# Altium footprint library via_test_point_flags.PcbLib: 1 footprints
Each footprint in its own frame and in the unit in brackets; x right, y up, seen from the top. Pads: shape width x height; smd on the part's side, far side on the other; paste and mask are expansions set on the pad; w line width, h text height; cw(c..) or ccw(c..) is an arc to the next point about the centre after c.
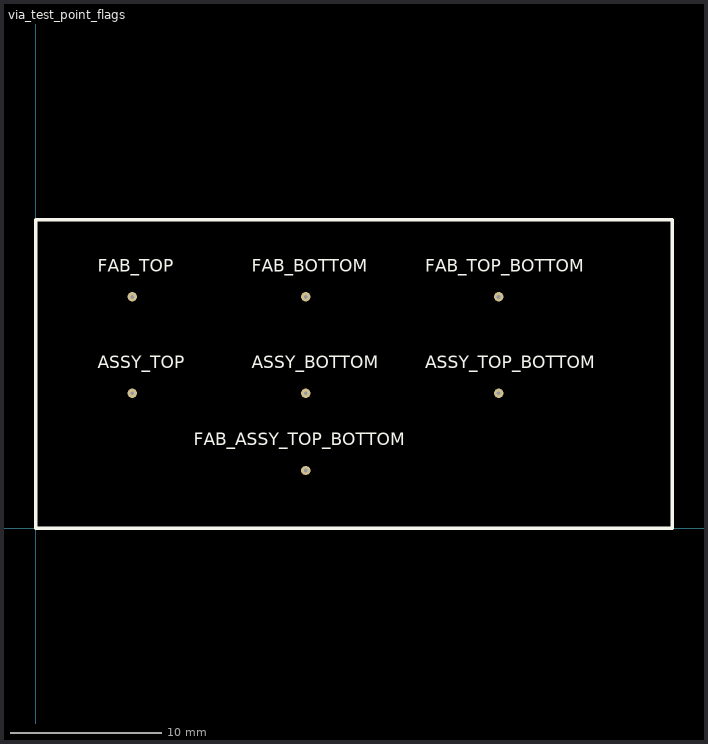
[diagram p0: the footprint, top view; thin cyan lines are the x and y axes]

## via_test_point_flags [mm] "This is a test of via test point flags"
via 6.35,15.24 diameter 0.61 hole 0.254
via 17.78,15.24 diameter 0.61 hole 0.254
via 30.48,15.24 diameter 0.61 hole 0.254
via 6.35,8.89 diameter 0.61 hole 0.254
via 17.78,8.89 diameter 0.61 hole 0.254
via 30.48,8.89 diameter 0.61 hole 0.254
via 17.78,3.81 diameter 0.61 hole 0.254
Top Overlay:
  lines w0.254: 0,0 0,20.32 41.91,20.32 41.91,0 0,0
  text "FAB_TOP" at 4.064,16.899 h0.81
  text "FAB_BOTTOM" at 14.224,16.899 h0.81
  text "FAB_TOP_BOTTOM" at 25.654,16.899 h0.81
  text "ASSY_TOP" at 4.064,10.549 h0.81
  text "ASSY_BOTTOM" at 14.224,10.549 h0.81
  text "ASSY_TOP_BOTTOM" at 25.654,10.549 h0.81
  text "FAB_ASSY_TOP_BOTTOM" at 10.414,5.469 h0.81